# Altium schematic symbol library mech_pins.SchLib: 33 symbols
Pins are listed as number, name and electrical type; pins without a type are passive.

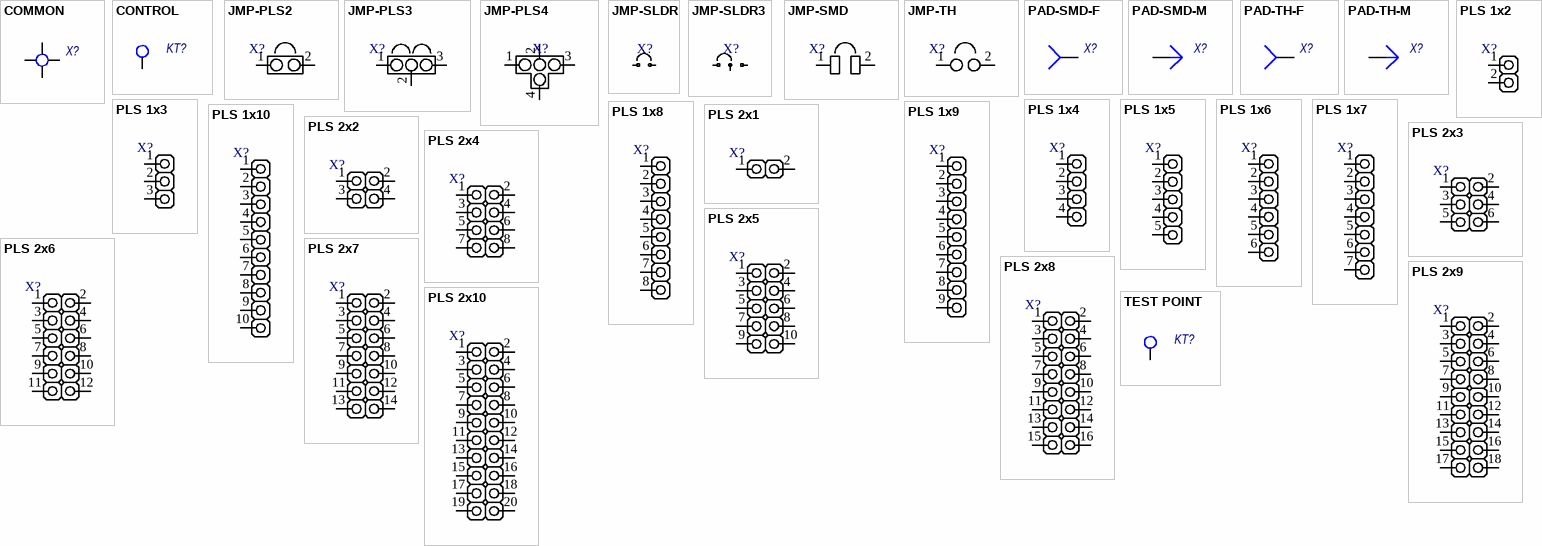
[diagram p0: symbols COMMON to TEST POINT]

## COMMON
designator X?, comment Common point  (value not drawn)
Name: Common point
footprint COMMON-1.0
pins: 1, 2, 3, 4

## CONTROL
designator KT?, comment Control point  (value not drawn)
Name: Control point
footprint PAD-1.0
footprint PAD-1.3
footprint PAD-1.5
footprint PAD-1.8
footprint PAD-2.0
pins: 1

## JMP-PLS2
designator X?, comment Jumper 2 PLS  (value not drawn)
Name: Jumper 2 PLS
footprint JMP-2.0-2
footprint JMP-2.54-2
pins: 1, 2

## JMP-PLS3
designator X?, comment Jumper 3 PLS  (value not drawn)
Name: Jumper 3 PLS
footprint JMP-2.0-3
footprint JMP-2.54-3
pins: 1, 2, 3

## JMP-PLS4
designator X?, comment Jumper 4 PLS  (value not drawn)
Name: Jumper 4 PLS
footprint JMP-2.0-4
footprint JMP-2.54-4
pins: 1, 2, 3, 4

## JMP-SLDR
designator X?, comment Jumper 2 solder  (value not drawn)
Name: Jumper 2 solder
footprint JMP-SLDR-2-0.3x1.5
pins: 1, 2

## JMP-SLDR3
designator X?, comment Jumper 3 solder  (value not drawn)
Name: Jumper 3 solder
footprint JMP-SLDR-3-0.3x1.5
pins: 1, 2, 3

## JMP-SMD
designator X?, comment Jumper SMD  (value not drawn)
Jumper 2 SMD; Name: Jumper SMD
footprint JMP-SMD-0603 (Chip Capacitor, 2-Leads, Body 1,60x0,80mm, IPC Medium Density)
footprint JMP-SMD-0805 (Chip Resistor, 2-Leads, Body 2,00x1,25mm, IPC Medium Density)
footprint JMP-SMD-1206 (Chip Resistor, 2-Leads, Body 3,13x1,55mm, IPC Medium Density)
pins: 1, 2

## JMP-TH
designator X?, comment Jumper 2 Though-hole  (value not drawn)
Name: Jumper 2 Though-hole
footprint JMP-TH-2.54
footprint JMP-TH-5.08
footprint JMP-TH-7.62
pins: 1, 2

## PAD-SMD-F
designator X?, comment Pad SMD Female  (value not drawn)
Pad single-layer female; Name: Pad SMD Female
footprint PAD-1.0
footprint PAD-1.3
footprint PAD-1.5
footprint PAD-1.8
footprint PAD-2.0
footprint PAD-2.5
footprint PAD-3.0
footprint PAD-3.5
pins: 1

## PAD-SMD-M
designator X?, comment Pad SMD Male  (value not drawn)
Pad single-layer male; Name: Pad SMD Male
footprint PAD-1.0
footprint PAD-1.3
footprint PAD-1.5
footprint PAD-1.8
footprint PAD-2.0
footprint PAD-2.5
footprint PAD-3.0
footprint PAD-3.5
pins: 1

## PAD-TH-F
designator X?, comment Pad TH Female  (value not drawn)
Pad through-hole female; Name: Pad TH Female
footprint PAD-1.0-R0.6
footprint PAD-1.3-R0.8
footprint PAD-1.5-R1.0
footprint PAD-1.8-R1.2
footprint PAD-2.0-R1.4
footprint PAD-2.5-R1.6
footprint PAD-3.0-R2.0
footprint PAD-3.5-R2.3
pins: 1

## PAD-TH-M
designator X?, comment Pad TH Male  (value not drawn)
Pad through-hole male; Name: Pad TH Male
footprint PAD-1.0-R0.6
footprint PAD-1.3-R0.8
footprint PAD-1.5-R1.0
footprint PAD-1.8-R1.2
footprint PAD-2.0-R1.4
footprint PAD-2.5-R1.6
footprint PAD-3.0-R2.0
footprint PAD-3.5-R2.3
pins: 1

## PLS 1x2
designator X?
Pinout 1x2; Manufacturer: Connfly; ManufacturerPartNumber: PLS-1x2; Power/Voltage: 50V; Value: 2.54 mm; Type: mech-connector; Tolerance: *; RevisionDate: 20-12-2018; Package: PLS
footprint PLS2.0-1X2
footprint PLS-1X2
pins: 1, 2

## PLS 1x3
designator X?
Pinout 1x3; Manufacturer: Connfly; ManufacturerPartNumber: PLS-1x3; Power/Voltage: 50V; Value: 2.54 mm; Type: mech-connector; Tolerance: *; RevisionDate: 20-12-2018; Package: PLS
footprint PLS2.0-1X3
footprint PLS-1X3
pins: 1, 2, 3

## PLS 1x4
designator X?
Pinout 1x4; Manufacturer: Connfly; ManufacturerPartNumber: PLS-1x4; Power/Voltage: 50V; Value: 2.54 mm; Type: mech-connector; Tolerance: *; RevisionDate: 20-12-2018; Package: PLS
footprint PLS2.0-1X4
footprint PLS-1X4
pins: 1, 2, 3, 4

## PLS 1x5
designator X?
Pinout 1x5; Manufacturer: Connfly; ManufacturerPartNumber: PLS-1x5; Power/Voltage: 50V; Value: 2.54 mm; Type: mech-connector; Tolerance: *; RevisionDate: 20-12-2018; Package: PLS
footprint PLS2.0-1X5
footprint PLS-1X5
pins: 1, 2, 3, 4, 5

## PLS 1x6
designator X?
Pinout 1x6; Manufacturer: Connfly; ManufacturerPartNumber: PLS-1x6; Power/Voltage: 50V; Value: 2.54 mm; Type: mech-connector; Tolerance: *; RevisionDate: 20-12-2018; Package: PLS
footprint PLS2.0-1X6
footprint PLS-1X6
pins: 1, 2, 3, 4, 5, 6

## PLS 1x7
designator X?
Pinout 1x7; Manufacturer: Connfly; ManufacturerPartNumber: PLS-1x7; Power/Voltage: 50V; Value: 2.54 mm; Type: mech-connector; Tolerance: *; RevisionDate: 20-12-2018; Package: PLS
footprint PLS2.0-1X7
footprint PLS-1X7
pins: 1, 2, 3, 4, 5, 6, 7

## PLS 1x8
designator X?
Pinout 1x8; Manufacturer: Connfly; ManufacturerPartNumber: PLS-1x8; Power/Voltage: 50V; Value: 2.54 mm; Type: mech-connector; Tolerance: *; RevisionDate: 20-12-2018; Package: PLS
footprint PLS2.0-1X8
footprint PLS-1X8
pins: 1, 2, 3, 4, 5, 6, 7, 8

## PLS 1x9
designator X?
Pinout 1x9; Manufacturer: Connfly; ManufacturerPartNumber: PLS-1x9; Power/Voltage: 50V; Value: 2.54 mm; Type: mech-connector; Tolerance: *; RevisionDate: 20-12-2018; Package: PLS
footprint PLS2.0-1X9
footprint PLS-1X9
pins: 1, 2, 3, 4, 5, 6, 7, 8, 9

## PLS 1x10
designator X?
Pinout 1x10; Manufacturer: Connfly; ManufacturerPartNumber: PLS-1x10; Power/Voltage: 50V; Value: 2.54 mm; Type: mech-connector; Tolerance: *; RevisionDate: 20-12-2018; Package: PLS
footprint PLS2.0-1X10
footprint PLS-1X10
pins: 1, 2, 3, 4, 5, 6, 7, 8, 9, 10

## PLS 2x1
designator X?
Pinout 2x1; Manufacturer: Connfly; ManufacturerPartNumber: PLS-2x1; Power/Voltage: 50V; Value: 2.54 mm; Type: mech-connector; Tolerance: *; RevisionDate: 20-12-2018; Package: PLS
footprint PLS2.0-1X2
footprint PLS-2X1
pins: 1, 2

## PLS 2x2
designator X?
Pinout 2x2; Manufacturer: Connfly; ManufacturerPartNumber: PLS-2x2; Power/Voltage: 50V; Value: 2.54 mm; Type: mech-connector; Tolerance: *; RevisionDate: 20-12-2018; Package: PLS
footprint PLS2.0-2X2
footprint PLS-2X2
pins: 1, 2, 3, 4

## PLS 2x3
designator X?
Pinout 2x3; Manufacturer: Connfly; ManufacturerPartNumber: PLS-2x3; Power/Voltage: 50V; Value: 2.54 mm; Type: mech-connector; Tolerance: *; RevisionDate: 20-12-2018; Package: PLS
footprint PLS2.0-2X3
footprint PLS-2X3
pins: 1, 2, 3, 4, 5, 6

## PLS 2x4
designator X?
Pinout 2x4; Manufacturer: Connfly; ManufacturerPartNumber: PLS-2x4; Power/Voltage: 50V; Value: 2.54 mm; Type: mech-connector; Tolerance: *; RevisionDate: 20-12-2018; Package: PLS
footprint PLS2.0-2X4
footprint PLS-2X4
pins: 1, 2, 3, 4, 5, 6, 7, 8

## PLS 2x5
designator X?
Pinout 2x5; Manufacturer: Connfly; ManufacturerPartNumber: PLS-2x5; Power/Voltage: 50V; Value: 2.54 mm; Type: mech-connector; Tolerance: *; RevisionDate: 20-12-2018; Package: PLS
footprint PLS2.0-2X5
footprint PLS-2X5
pins: 1, 2, 3, 4, 5, 6, 7, 8, 9, 10

## PLS 2x6
designator X?
Pinout 2x6; Manufacturer: Connfly; ManufacturerPartNumber: PLS-2x6; Power/Voltage: 50V; Value: 2.54 mm; Type: mech-connector; Tolerance: *; RevisionDate: 20-12-2018; Package: PLS
footprint PLS2.0-2X6
footprint PLS-2X6
pins: 1, 2, 3, 4, 5, 6, 7, 8, 9, 10, 11, 12

## PLS 2x7
designator X?
Pinout 2x7; Manufacturer: Connfly; ManufacturerPartNumber: PLS-2x7; Power/Voltage: 50V; Value: 2.54 mm; Type: mech-connector; Tolerance: *; RevisionDate: 20-12-2018; Package: PLS
footprint PLS2.0-2X7
footprint PLS-2X7
pins: 1, 2, 3, 4, 5, 6, 7, 8, 9, 10, 11, 12, 13, 14

## PLS 2x8
designator X?
Pinout 2x8; Manufacturer: Connfly; ManufacturerPartNumber: PLS-2x8; Power/Voltage: 50V; Value: 2.54 mm; Type: mech-connector; Tolerance: *; RevisionDate: 20-12-2018; Package: PLS
footprint PLS2.0-2X8
footprint PLS-2X8
pins: 1, 2, 3, 4, 5, 6, 7, 8, 9, 10, 11, 12, 13, 14, 15, 16

## PLS 2x9
designator X?
Pinout 2x9; Manufacturer: Connfly; ManufacturerPartNumber: PLS-2x9; Power/Voltage: 50V; Value: 2.54 mm; Type: mech-connector; Tolerance: *; RevisionDate: 20-12-2018; Package: PLS
footprint PLS2.0-2X9
footprint PLS-2X9
pins: 1, 2, 3, 4, 5, 6, 7, 8, 9, 10, 11, 12, 13, 14, 15, 16, 17, 18

## PLS 2x10
designator X?
Pinout 2x10; Manufacturer: Connfly; ManufacturerPartNumber: PLS-2x10; Power/Voltage: 50V; Value: 2.54 mm; Type: mech-connector; Tolerance: *; RevisionDate: 20-12-2018; Package: PLS
footprint PLS2.0-2X10
footprint PLS-2X10
pins: 1, 2, 3, 4, 5, 6, 7, 8, 9, 10, 11, 12, 13, 14, 15, 16, 17, 18, 19, 20

## TEST POINT
designator KT?, comment Test point  (value not drawn)
Name: Test point
footprint PAD-1.0
footprint PAD-1.3
footprint PAD-1.5
footprint PAD-1.8
footprint PAD-2.0
pins: 1